# Altium schematic symbol library SN74LVC2G66.Schlib: 1 symbol
Pins are listed as number, name and electrical type; pins without a type are passive.

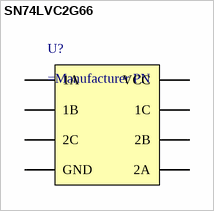
[diagram p0: symbol SN74LVC2G66]

## SN74LVC2G66
designator U?
pins: 1 1A, 2 1B, 3 2C, 4 GND, 5 2A, 6 2B, 7 1C, 8 VCC